# Altium footprint library BK-18650-PC2.PcbLib: 1 footprints
Each footprint in its own frame and in the unit in brackets; x right, y up, seen from the top. Pads: shape width x height; smd on the part's side, far side on the other; paste and mask are expansions set on the pad; w line width, h text height; cw(c..) or ccw(c..) is an arc to the next point about the centre after c.
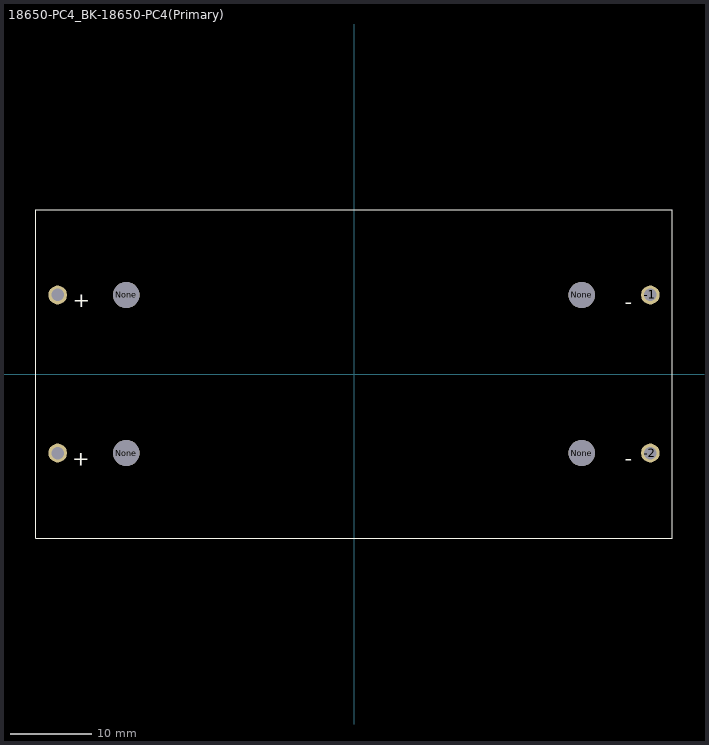
[diagram p0: the footprint, top view; thin cyan lines are the x and y axes]

## 18650-PC4_BK-18650-PC4(Primary) [mil]
pads (8):
  round 90 hole 60: -1(1425,380) -2(1425,-380) ""(-1425,-380) ""(-1425,380)
  round 126 hole 126 unplated: None(-1095,-380) None(-1095,380) None(1095,-380) None(1095,380)
Top Overlay:
  lines w5: -1530,-790 1530,-790 1530,790 -1530,790 -1530,-790
  text "-" at 1302.32,-440.61 h73.82
  text "-" at 1303,310.89 h73.82
  text "+" at -1354.5,-441.28 h73.82
  text "+" at -1351.79,320.6 h73.82